# EAGLE library part AS-ITM-00326 (library tinycircuits)
MODULE, INTELLIGENT LORA/BLE MOD
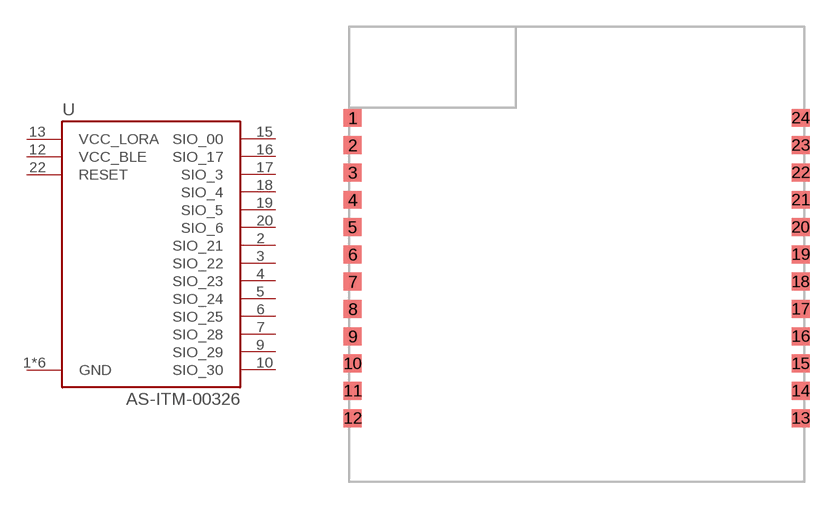
[diagram p126: symbol with the pads of RM191-SM; footprint RM191-SM]

Designator prefix U

## AS-ITM-00326 (PARTNO: AS-ITM-00326; VALUE: RM191-SM)  [RM191-SM]
1  GND
2  SIO_21
3  SIO_22
4  SIO_23
5  SIO_24
6  SIO_25
7  SIO_28
8  GND
9  SIO_29
10  SIO_30
11  GND
12  VCC_BLE
13  VCC_LORA
14  GND
15  SIO_00
16  SIO_17
17  SIO_3
18  SIO_4
19  SIO_5
20  SIO_6
21  GND
22  RESET
24  GND

## Footprint RM191-SM (pad centres in mm)
smd 1 x 1: 1 -12.5,7.62; 2 -12.5,6.096; 3 -12.5,4.572; 4 -12.5,3.048; 5 -12.5,1.524; 6 -12.5,0; 7 -12.5,-1.524; 8 -12.5,-3.048; 9 -12.5,-4.572; 10 -12.5,-6.096; 11 -12.5,-7.62; 12 -12.5,-9.144; 13 12.5,-9.144; 14 12.5,-7.62; 15 12.5,-6.096; 16 12.5,-4.572; 17 12.5,-3.048; 18 12.5,-1.524; 19 12.5,0; 20 12.5,1.524; 21 12.5,3.048; 22 12.5,4.572; 23 12.5,6.096; 24 12.5,7.62